# Altium footprint library ADS805_DDS_Ext_Board_v3.PcbLib: 21 footprints (part 2 of 2)
Each footprint in its own frame and in the unit in brackets; x right, y up, seen from the top. Pads: shape width x height; smd on the part's side, far side on the other; paste and mask are expansions set on the pad; w line width, h text height; cw(c..) or ccw(c..) is an arc to the next point about the centre after c.
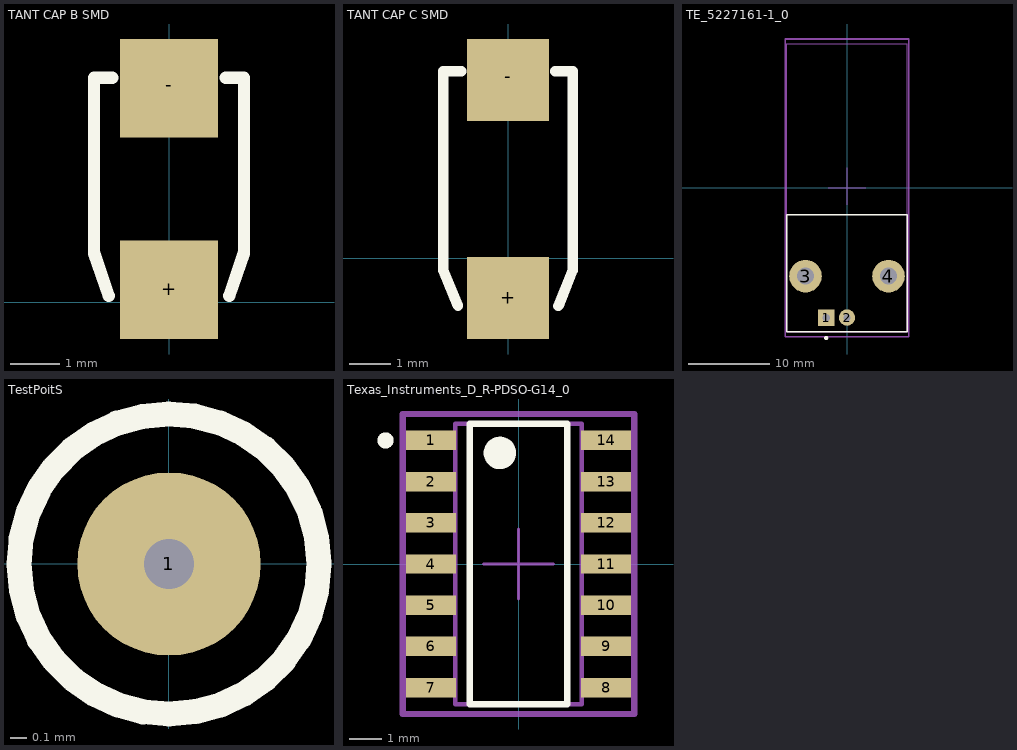
[diagram p1: the footprints below, top view; thin cyan lines are the x and y axes]

## TANT CAP B SMD [mm]
pads (2):
  rect 2x2 smd: +(0,0.25) -(0,4.35)
Top Overlay:
  lines w0.254: -1.225,0.125 -1.525,1 -1.525,4.56 -1.15,4.56 ; 1.15,4.56 1.525,4.56 1.525,1 1.225,0.125

## TANT CAP C SMD [mm]
pads (2):
  rect 2x2 smd: +(0,-0.97) -(0,4.35)
Top Overlay:
  lines w0.254: -1.225,-1.165 -1.585,-0.29 -1.585,4.56 -1.15,4.56 ; 1.15,4.56 1.575,4.56 1.575,-0.29 1.225,-1.165

## TE_5227161-1_0 [mm]
pads (4):
  rect 2x2 hole 0.9 paste-1000 mask+0: 1(-2.54,-15.88)
  round 2 hole 0.9 paste-1000 mask+0: 2(0,-15.88)
  round 4 hole 2.1 paste-1000 mask+0: 3(-5.08,-10.8) 4(5.08,-10.8)
Top Overlay:
  circle w0.25: c-2.54,-18.375 r0.125
  lines w0.2: -7.38,-17.63 -7.38,-3.28 7.38,-3.28 7.38,-17.63 -7.38,-17.63
Mechanical 10:
  lines w0.2: -7.58,-18.225 -7.58,18.225 7.58,18.225 7.58,-18.225 -7.58,-18.225
  text ".Designator" at 0,0 h1
Mechanical 12:
  lines w0.15: -7.38,-17.63 -7.38,17.63 7.38,17.63 7.38,-17.63 -7.38,-17.63
Mechanical 15:
  lines w0.1: -2.274,0 2.274,0 ; 0,-2.079 0,2.469
  lines w0.2: -7.58,-18.225 -7.58,18.225 7.58,18.225 7.58,-18.225 -7.58,-18.225
3D body "3dmodel.step": height 15.91, standoff -4.08, extent -7.365,-17.815 7.393,17.745

## TestPoitS [mm]
pads (1):
  round 1.1 hole 0.3: 1(0,0)
Top Overlay:
  lines w0.15: 0.9,0 cw(c0,0) 0.9,0.004
Bottom Overlay:
  circle w0.15: c0,0 r0.9

## Texas_Instruments_D_R-PDSO-G14_0 [mm]
pads (14):
  rect 1.55x0.6 smd paste-1000 mask+0: 1(-2.7,3.81) 2(-2.7,2.54) 3(-2.7,1.27) 4(-2.7,0) 5(-2.7,-1.27) 6(-2.7,-2.54) 7(-2.7,-3.81) 8(2.7,-3.81) 9(2.7,-2.54) 10(2.7,-1.27) 11(2.7,0) 12(2.7,1.27) 13(2.7,2.54) 14(2.7,3.81)
Top Overlay:
  circle w0.5: c-0.575,3.425 r0.25
  circle w0.25: c-4.1,3.81 r0.125
  lines w0.2: -1.5,-4.325 -1.5,4.325 1.5,4.325 1.5,-4.325 -1.5,-4.325
Top Paste:
  rectangle: 1.95,-0.275 3.45,0.275
  rectangle: -3.45,-0.275 -1.95,0.275
  rectangle: -3.45,-1.545 -1.95,-0.995
  rectangle: 1.95,-1.545 3.45,-0.995
  rectangle: 1.95,0.995 3.45,1.545
  rectangle: -3.45,0.995 -1.95,1.545
  rectangle: -3.45,2.265 -1.95,2.815
  rectangle: 1.95,2.265 3.45,2.815
  rectangle: 1.95,-2.815 3.45,-2.265
  rectangle: -3.45,-2.815 -1.95,-2.265
  rectangle: -3.45,-4.085 -1.95,-3.535
  rectangle: 1.95,-4.085 3.45,-3.535
  rectangle: 1.95,3.535 3.45,4.085
  rectangle: -3.45,3.535 -1.95,4.085
Mechanical 10:
  lines w0.2: -3.575,-4.625 -3.575,4.625 3.575,4.625 3.575,-4.625 -3.575,-4.625
  text ".Designator" at 0,0 h1
Mechanical 12:
  lines w0.15: -1.95,-4.325 -1.95,4.325 1.95,4.325 1.95,-4.325 -1.95,-4.325
Mechanical 15:
  lines w0.1: -1.072,0 1.072,0 ; -0.5,0 0.5,0 ; 0,-1.072 0,1.072 ; 0,-0.5 0,0.5
  lines w0.2: -3.575,-4.625 -3.575,4.625 3.575,4.625 3.575,-4.625 -3.575,-4.625
3D body "3dmodel.step": height 1.73, standoff 0, extent -3.076,-4.371 3.124,4.379